# Altium integrated library Infineon_Power_MOSFET.IntLib: 1448 symbols (part 41 of 47)
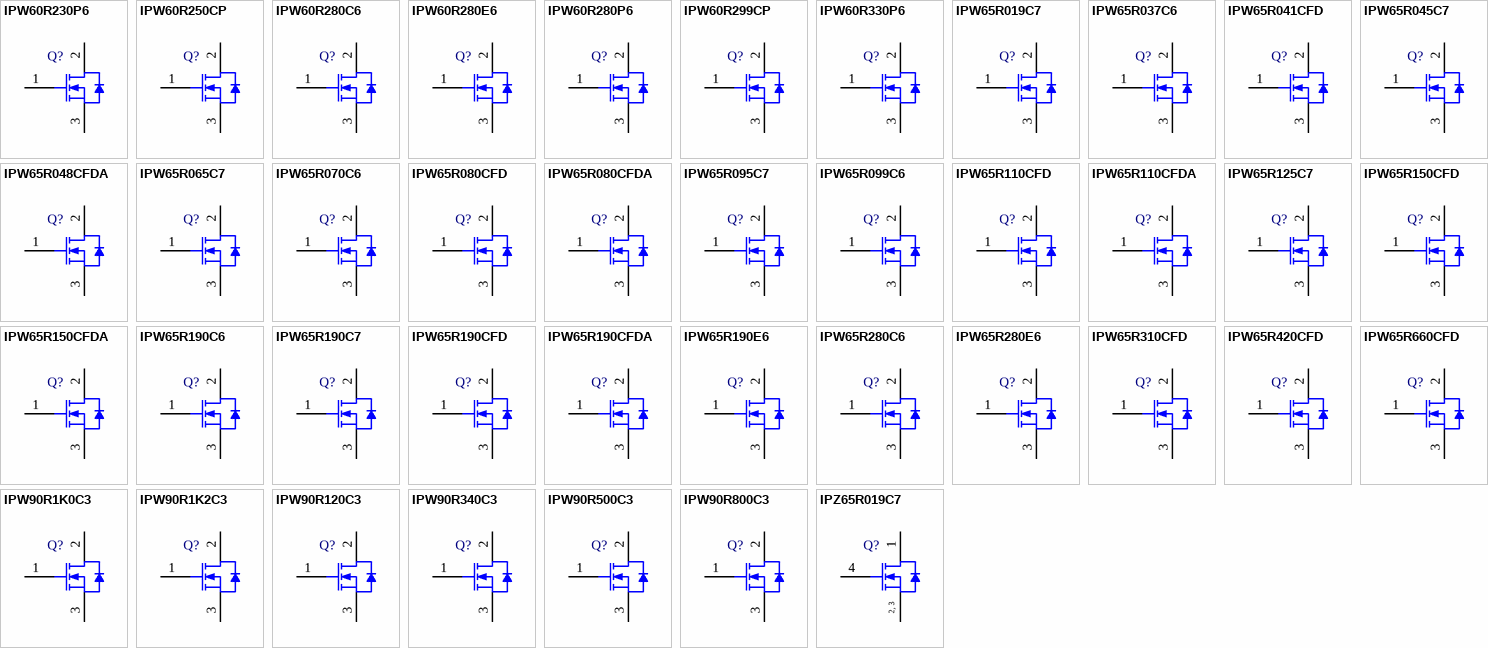
[diagram p77: symbols IPW60R230P6 to IPZ65R019C7]

## IPW65R099C6
designator Q?
N-Channel CoolMOS C6 Power-Transistor, 650 V VDS, 38 A ID, -55 to 150 degC, PG-TO247-3-44, Tube, Green; Manufacturer: Infineon; PartNumber: IPW65R099C6; Green: TRUE; ID (max): 38 A; IDpuls (max): 115 A; Polarity: N; Ptot (max): 278 W; QG: 127 nC; RDS (on) (max): 99 mOhm; Rth: 0.45 K/W; RthJA (max): 62 K/W; VDS (max): 650 V; VGS(th) (max): 3.5 V; VGS(th) (min): 2.5 V; DatasheetVersion: Rev. 2.0; PackageVersion: Rev. 03; PackageReference: PG-TO247-3-44; PackageDescription: 3-Pin Plastic (Green) Transistor Single Outline Package, 15.94 x 20.95 mm Body, 5.44 mm Pitch; Halogen-free: available; Packing: Tube; RthJC (max): 0.45 K/W; Technology: CoolMOS C6; Mounting Technology: Through Hole; ComponentLink1Description: Manufacturer URL; ComponentLink1URL: http://www.infineon.com/; ComponentLink2Description: Datasheet; ComponentLink2URL: http://www.infineon.com/dgdl/IPW65R099C6.pdf?folderId=db3a3043163797a6011637d4bae7003b&fileId=db3a3043341f67a1013440f34440502a; ComponentLink3Description: Package Specification; ComponentLink3URL: http://www.infineon.com/cms/packages/Leaded_and_through-hole/P-PG-TO247/P-PG-TO247-3-44.html?__locale=en
footprint INF-PG-TO247-3-44 (FM, 3-Leads, Body 5.02x15.94mm, Pitch 5.44mm)
pins: 1 GATE, 2 DRAIN, 3 SOURCE

## IPW65R110CFD
designator Q?
N-Channel CoolMOS CFD2 Power-Transistor, 650 V VDS, 31.2 A ID, -55 to 150 degC, PG-TO247-3-44, Tube, Green; Manufacturer: Infineon; PartNumber: IPW65R110CFD; Green: TRUE; ID (max): 31.2 A; IDpuls (max): 99.6 A; Polarity: N; Ptot (max): 277.8 W; QG: 118 nC; RDS (on) (max): 110 mOhm; Rth: 0.45 K/W; RthJA (max): 62 K/W; VDS (max): 650 V; VGS(th) (max): 4.5 V; VGS(th) (min): 3.5 V; DatasheetVersion: Rev. 2.6; PackageVersion: Rev. 03; PackageReference: PG-TO247-3-44; PackageDescription: 3-Pin Plastic (Green) Transistor Single Outline Package, 15.94 x 20.95 mm Body, 5.44 mm Pitch; Supplier 1: Mouser; Supplier Part Number 1: 726-IPW65R110CFD; Supplier 2: Digi-Key; Supplier Part Number 2: IPW65R110CFD-ND; Halogen-free: available; Packing: Tube; RthJC (max): 0.45 K/W; Technology: CoolMOS CFD2; Mounting Technology: Through Hole; ComponentLink1Description: Manufacturer URL; ComponentLink1URL: http://www.infineon.com/; ComponentLink2Description: Datasheet; ComponentLink2URL: http://www.infineon.com/dgdl/DS_IPX65R110CFD_2_61.pdf?folderId=db3a3043156fd5730115c736bcc70ff2&fileId=db3a30433004641301306abd8e2041b1; ComponentLink3Description: Package Specification; ComponentLink3URL: http://www.infineon.com/cms/packages/Leaded_and_through-hole/P-PG-TO247/P-PG-TO247-3-44.html?__locale=en
footprint INF-PG-TO247-3-44 (FM, 3-Leads, Body 5.02x15.94mm, Pitch 5.44mm)
pins: 1 GATE, 2 DRAIN, 3 SOURCE

## IPW65R110CFDA
designator Q?
N-Channel CoolMOS CFDA Power-Transistor, 650 V VDS, 31.2 A ID, -40 to 150 degC, PG-TO247-3-44, Tube, Green; Manufacturer: Infineon; PartNumber: IPW65R110CFDA; Green: TRUE; ID (max): 31.2 A; IDpuls (max): 99.6 A; Polarity: N; Ptot (max): 277.8 W; QG: 118 nC; RDS (on) (max): 110 mOhm; Rth: 0.45 K/W; RthJA (max): 62 K/W; VDS (max): 650 V; VGS(th) (max): 4.5 V; VGS(th) (min): 3.5 V; DatasheetVersion: Rev. 2.0; PackageVersion: Rev. 03; PackageReference: PG-TO247-3-44; PackageDescription: 3-Pin Plastic (Green) Transistor Single Outline Package, 15.94 x 20.95 mm Body, 5.44 mm Pitch; Halogen-free: available; Packing: Tube; RthJC (max): 0.45 K/W; Technology: CoolMOS CFDA; Mounting Technology: Through Hole; ComponentLink1Description: Manufacturer URL; ComponentLink1URL: http://www.infineon.com/; ComponentLink2Description: Datasheet; ComponentLink2URL: http://www.infineon.com/dgdl/DS_IPX65R110CFDA_2_0.pdf?folderId=db3a3043163797a6011637d4bae7003b&fileId=db3a304336797ff90136ba7c820925a5; ComponentLink3Description: Package Specification; ComponentLink3URL: http://www.infineon.com/cms/packages/Leaded_and_through-hole/P-PG-TO247/P-PG-TO247-3-44.html?__locale=en
footprint INF-PG-TO247-3-44 (FM, 3-Leads, Body 5.02x15.94mm, Pitch 5.44mm)
pins: 1 GATE, 2 DRAIN, 3 SOURCE

## IPW65R125C7
designator Q?
N-Channel CoolMOS(TM) C7 Power Transistor, 650 V VDS, -55 to 150 degC, PG-TO247-3, Tube, Green; Manufacturer: Infineon; PartNumber: IPW65R125C7; Green: TRUE; Polarity: FALSE; RDS (on) (max): 125 mOhm; VDS (max): 650 V; DatasheetVersion: Rev. 2.0; PackageVersion: Rev. 05, 07/2010; PackageReference: PG-TO247-3-44_A; PackageDescription: 3-Pin Plastic (Green) Transistor Single Outline Package, 15.915 x 20.95 mm Body, 5.44 mm Pitch; Supplier 1: Mouser; Supplier Part Number 1: N/A; Halogen-free: TRUE; Packing: Tube; Mounting Technology: Through Hole; ComponentLink1Description: Manufacturer URL; ComponentLink1URL: http://www.infineon.com/; ComponentLink2Description: Datasheet; ComponentLink2URL: http://www.infineon.com/dgdl/DS_IPW65R125C7_2_0.pdf?folderId=db3a3043156fd5730115c736bcc70ff2&fileId=db3a30434208e5fd01420df7147364a5; ComponentLink3Description: Package Specification; ComponentLink3URL: http://www.infineon.com/dgdl/IJW120R070T1-final+datasheet+2+0.pdf?folderId=db3a304341e0aed0014203508c870e38&fileId=db3a304341e0aed0014203597c420ec5
footprint INF-PG-TO247-3-44_A (FM, 3-Leads, Body 15.915x5.02mm, Pitch 5.44mm)
pins: 1 GATE, 2 DRAIN, 3 SOURCE

## IPW65R150CFD
designator Q?
N-Channel CoolMOS CFD2 Power-Transistor, 650 V VDS, 22.4 A ID, -55 to 150 degC, PG-TO247-3-44, Tube, Green; Manufacturer: Infineon; PartNumber: IPW65R150CFD; Green: TRUE; ID (max): 22.4 A; IDpuls (max): 72 A; Polarity: N; Ptot (max): 195.3 W; QG: 86 nC; RDS (on) (max): 150 mOhm; Rth: 0.64 K/W; RthJA (max): 62 K/W; VDS (max): 650 V; VGS(th) (max): 4.5 V; VGS(th) (min): 3.5 V; DatasheetVersion: Rev. 2.0; PackageVersion: Rev. 03; PackageReference: PG-TO247-3-44; PackageDescription: 3-Pin Plastic (Green) Transistor Single Outline Package, 15.94 x 20.95 mm Body, 5.44 mm Pitch; Halogen-free: available; Packing: Tube; RthJC (max): 0.64 K/W; Technology: CoolMOS CFD2; Mounting Technology: Through Hole; ComponentLink1Description: Manufacturer URL; ComponentLink1URL: http://www.infineon.com/; ComponentLink2Description: Datasheet; ComponentLink2URL: http://www.infineon.com/dgdl/DS_IPX65R150CFD__2_01.pdf?folderId=db3a3043156fd5730115c736bcc70ff2&fileId=db3a3043338c8ac80133ace218433063; ComponentLink3Description: Package Specification; ComponentLink3URL: http://www.infineon.com/cms/packages/Leaded_and_through-hole/P-PG-TO247/P-PG-TO247-3-44.html?__locale=en
footprint INF-PG-TO247-3-44 (FM, 3-Leads, Body 5.02x15.94mm, Pitch 5.44mm)
pins: 1 GATE, 2 DRAIN, 3 SOURCE

## IPW65R150CFDA
designator Q?
N-Channel CoolMOS CFDA Power-Transistor, 650 V VDS, 22.4 A ID, -40 to 150 degC, PG-TO247-3-44, Tube, Green; Manufacturer: Infineon; PartNumber: IPW65R150CFDA; Green: TRUE; ID (max): 22.4 A; IDpuls (max): 72 A; Polarity: N; Ptot (max): 195.3 W; QG: 86 nC; RDS (on) (max): 150 mOhm; Rth: 0.64 K/W; RthJA (max): 62 K/W; VDS (max): 650 V; VGS(th) (max): 4.5 V; VGS(th) (min): 3.5 V; DatasheetVersion: Rev. 2.0; PackageVersion: Rev. 03; PackageReference: PG-TO247-3-44; PackageDescription: 3-Pin Plastic (Green) Transistor Single Outline Package, 15.94 x 20.95 mm Body, 5.44 mm Pitch; Halogen-free: available; Packing: Tube; RthJC (max): 0.64 K/W; Technology: CoolMOS CFDA; Mounting Technology: Through Hole; ComponentLink1Description: Manufacturer URL; ComponentLink1URL: http://www.infineon.com/; ComponentLink2Description: Datasheet; ComponentLink2URL: http://www.infineon.com/dgdl/DS_IPX65R150CFDA_final+2.0.pdf?folderId=db3a3043156fd5730115c736bcc70ff2&fileId=db3a3043399628450139af71b2a12046; ComponentLink3Description: Package Specification; ComponentLink3URL: http://www.infineon.com/cms/packages/Leaded_and_through-hole/P-PG-TO247/P-PG-TO247-3-44.html?__locale=en
footprint INF-PG-TO247-3-44 (FM, 3-Leads, Body 5.02x15.94mm, Pitch 5.44mm)
pins: 1 GATE, 2 DRAIN, 3 SOURCE

## IPW65R190C6
designator Q?
N-Channel CoolMOS C6 Power-Transistor, 650 V VDS, 20.2 A ID, -55 to 150 degC, PG-TO247-3-44, Tube, Green; Manufacturer: Infineon; PartNumber: IPW65R190C6; Green: TRUE; ID (max): 20.2 A; IDpuls (max): 66 A; Polarity: N; Ptot (max): 151 W; QG: 73 nC; RDS (on) (max): 190 mOhm; Rth: 0.83 K/W; RthJA (max): 62 K/W; VDS (max): 650 V; VGS(th) (max): 3.5 V; VGS(th) (min): 2.5 V; DatasheetVersion: Rev. 2.0; PackageVersion: Rev. 03; PackageReference: PG-TO247-3-44; PackageDescription: 3-Pin Plastic (Green) Transistor Single Outline Package, 15.94 x 20.95 mm Body, 5.44 mm Pitch; Supplier 1: Mouser; Supplier Part Number 1: 726-IPW65R190C6; Supplier 2: Digi-Key; Supplier Part Number 2: IPW65R190C6-ND; Halogen-free: available; Packing: Tube; RthJC (max): 0.83 K/W; Technology: CoolMOS C6; Mounting Technology: Through Hole; ComponentLink1Description: Manufacturer URL; ComponentLink1URL: http://www.infineon.com/; ComponentLink2Description: Datasheet; ComponentLink2URL: http://www.infineon.com/dgdl/IPW65R190C6_2_0.pdf?folderId=db3a3043163797a6011637d4bae7003b&fileId=db3a30433004641301300803924c3d8c; ComponentLink3Description: Package Specification; ComponentLink3URL: http://www.infineon.com/cms/packages/Leaded_and_through-hole/P-PG-TO247/P-PG-TO247-3-44.html?__locale=en
footprint INF-PG-TO247-3-44 (FM, 3-Leads, Body 5.02x15.94mm, Pitch 5.44mm)
pins: 1 GATE, 2 DRAIN, 3 SOURCE

## IPW65R190C7
designator Q?
N-Channel CoolMOS(TM) C7 Power Transistor, 650 V VDS, -55 to 150 degC, PG-TO247-3, Tube, Green; Manufacturer: Infineon; PartNumber: IPW65R190C7; Green: TRUE; Polarity: FALSE; RDS (on) (max): 190 mOhm; VDS (max): 650 V; DatasheetVersion: Rev. 2.1; PackageVersion: Rev. 05, 07/2010; PackageReference: PG-TO247-3-44_A; PackageDescription: 3-Pin Plastic (Green) Transistor Single Outline Package, 15.915 x 20.95 mm Body, 5.44 mm Pitch; Supplier 1: Farnell; Supplier Part Number 1: 2420511; Supplier 2: Newark; Supplier Part Number 2: 54X5237; Supplier 3: Mouser; Supplier Part Number 3: N/A; Halogen-free: TRUE; Packing: Tube; Mounting Technology: Through Hole; ComponentLink1Description: Manufacturer URL; ComponentLink1URL: http://www.infineon.com/; ComponentLink2Description: Datasheet; ComponentLink2URL: http://www.infineon.com/dgdl/DS_IPW65R190C7_2_1.pdf?folderId=db3a3043156fd5730115c736bcc70ff2&fileId=db3a30434208e5fd01420e04d795662a; ComponentLink3Description: Package Specification; ComponentLink3URL: http://www.infineon.com/dgdl/IJW120R070T1-final+datasheet+2+0.pdf?folderId=db3a304341e0aed0014203508c870e38&fileId=db3a304341e0aed0014203597c420ec5
footprint INF-PG-TO247-3-44_A (FM, 3-Leads, Body 15.915x5.02mm, Pitch 5.44mm)
pins: 1 GATE, 2 DRAIN, 3 SOURCE

## IPW65R190CFD
designator Q?
N-Channel CoolMOS C6 CFD Power-Transistor, 650 V VDS, 17.5 A ID, -55 to 150 degC, PG-TO247-3-44, Tube, Green; Manufacturer: Infineon; PartNumber: IPW65R190CFD; Green: TRUE; ID (max): 17.5 A; IDpuls (max): 57.2 A; Polarity: N; Ptot (max): 151 W; QG: 68 nC; RDS (on) (max): 190 mOhm; Rth: 0.83 K/W; RthJA (max): 62 K/W; VDS (max): 650 V; VGS(th) (max): 4.5 V; VGS(th) (min): 3.5 V; DatasheetVersion: Rev. 2.2; PackageVersion: Rev. 03; PackageReference: PG-TO247-3-44; PackageDescription: 3-Pin Plastic (Green) Transistor Single Outline Package, 15.94 x 20.95 mm Body, 5.44 mm Pitch; Supplier 1: Mouser; Supplier Part Number 1: 726-IPW65R190CFD; Supplier 2: Digi-Key; Supplier Part Number 2: IPW65R190CFD-ND; Halogen-free: available; Packing: Tube; RthJC (max): 0.83 K/W; Technology: CoolMOS CFD2; Mounting Technology: Through Hole; ComponentLink1Description: Manufacturer URL; ComponentLink1URL: http://www.infineon.com/; ComponentLink2Description: Datasheet; ComponentLink2URL: http://www.infineon.com/dgdl/DS_IPX65R190CFD__2_2.pdf?folderId=db3a3043163797a6011637d4bae7003b&fileId=db3a30432fd0c54a012fded065a8309b; ComponentLink3Description: Package Specification; ComponentLink3URL: http://www.infineon.com/cms/packages/Leaded_and_through-hole/P-PG-TO247/P-PG-TO247-3-44.html?__locale=en
footprint INF-PG-TO247-3-44 (FM, 3-Leads, Body 5.02x15.94mm, Pitch 5.44mm)
pins: 1 GATE, 2 DRAIN, 3 SOURCE

## IPW65R190CFDA
designator Q?
N-Channel CoolMOS CFDA Power-Transistor, 650 V VDS, 17.5 A ID, -40 to 150 degC, PG-TO247-3-44, Tube, Green; Manufacturer: Infineon; PartNumber: IPW65R190CFDA; Green: TRUE; ID (max): 17.5 A; IDpuls (max): 57.2 A; Polarity: N; Ptot (max): 151 W; QG: 68 nC; RDS (on) (max): 190 mOhm; Rth: 0.83 K/W; RthJA (max): 62 K/W; VDS (max): 650 V; VGS(th) (max): 4.5 V; VGS(th) (min): 3.5 V; DatasheetVersion: Rev. 2.0; PackageVersion: Rev. 03; PackageReference: PG-TO247-3-44; PackageDescription: 3-Pin Plastic (Green) Transistor Single Outline Package, 15.94 x 20.95 mm Body, 5.44 mm Pitch; Halogen-free: available; Packing: Tube; RthJC (max): 0.83 K/W; Technology: CoolMOS CFDA; Mounting Technology: Through Hole; ComponentLink1Description: Manufacturer URL; ComponentLink1URL: http://www.infineon.com/; ComponentLink2Description: Datasheet; ComponentLink2URL: http://www.infineon.com/dgdl/DS_IPX65R190CFDA_final+2.0.pdf?folderId=db3a3043156fd5730115c736bcc70ff2&fileId=db3a3043399628450139afa2346920a1; ComponentLink3Description: Package Specification; ComponentLink3URL: http://www.infineon.com/cms/packages/Leaded_and_through-hole/P-PG-TO247/P-PG-TO247-3-44.html?__locale=en
footprint INF-PG-TO247-3-44 (FM, 3-Leads, Body 5.02x15.94mm, Pitch 5.44mm)
pins: 1 GATE, 2 DRAIN, 3 SOURCE

## IPW65R190E6
designator Q?
N-Channel CoolMOS E6 Power-Transistor, 650 V VDS, 20.2 A ID, -55 to 150 degC, PG-TO247-3-44, Tube, Green; Manufacturer: Infineon; PartNumber: IPW65R190E6; Green: TRUE; ID (max): 20.2 A; IDpuls (max): 66 A; Polarity: N; Ptot (max): 151 W; QG: 73 nC; RDS (on) (max): 190 mOhm; Rth: 0.83 K/W; RthJA (max): 62 K/W; VDS (max): 650 V; VGS(th) (max): 3.5 V; VGS(th) (min): 2.5 V; DatasheetVersion: Rev. 2.0; PackageVersion: Rev. 03; PackageReference: PG-TO247-3-44; PackageDescription: 3-Pin Plastic (Green) Transistor Single Outline Package, 15.94 x 20.95 mm Body, 5.44 mm Pitch; Supplier 1: Mouser; Supplier Part Number 1: 726-IPW65R190E6; Supplier 2: Digi-Key; Supplier Part Number 2: IPW65R190E6-ND; Halogen-free: available; Packing: Tube; RthJC (max): 0.83 K/W; Technology: CoolMOS E6; Mounting Technology: Through Hole; ComponentLink1Description: Manufacturer URL; ComponentLink1URL: http://www.infineon.com/; ComponentLink2Description: Datasheet; ComponentLink2URL: http://www.infineon.com/dgdl/IPW65R190E6_2_0.pdf?folderId=db3a3043163797a6011637d4bae7003b&fileId=db3a3043300464130130075c7f263b94; ComponentLink3Description: Package Specification; ComponentLink3URL: http://www.infineon.com/cms/packages/Leaded_and_through-hole/P-PG-TO247/P-PG-TO247-3-44.html?__locale=en
footprint INF-PG-TO247-3-44 (FM, 3-Leads, Body 5.02x15.94mm, Pitch 5.44mm)
pins: 1 GATE, 2 DRAIN, 3 SOURCE

## IPW65R280C6
designator Q?
N-Channel CoolMOS C6 Power-Transistor, 650 V VDS, 13.8 A ID, -55 to 150 degC, PG-TO247-3-44, Tube, Green; Manufacturer: Infineon; PartNumber: IPW65R280C6; Green: TRUE; ID (max): 13.8 A; IDpuls (max): 39 A; Polarity: N; Ptot (max): 104 W; QG: 45 nC; RDS (on) (max): 280 mOhm; Rth: 1.2 K/W; RthJA (max): 62 K/W; VDS (max): 650 V; VGS(th) (max): 3.5 V; VGS(th) (min): 2.5 V; DatasheetVersion: Rev. 2.0; PackageVersion: Rev. 03; PackageReference: PG-TO247-3-44; PackageDescription: 3-Pin Plastic (Green) Transistor Single Outline Package, 15.94 x 20.95 mm Body, 5.44 mm Pitch; Supplier 1: Mouser; Supplier Part Number 1: 726-IPW65R280C6; Supplier 2: Digi-Key; Supplier Part Number 2: IPW65R280C6-ND; Halogen-free: available; Packing: Tube; RthJC (max): 1.2 K/W; Technology: CoolMOS C6; Mounting Technology: Through Hole; ComponentLink1Description: Manufacturer URL; ComponentLink1URL: http://www.infineon.com/; ComponentLink2Description: Datasheet; ComponentLink2URL: http://www.infineon.com/dgdl/IPW65R280C6_2_0.pdf?folderId=db3a3043156fd5730115c736bcc70ff2&fileId=db3a30432a7fedfc012a8aceded858e0; ComponentLink3Description: Package Specification; ComponentLink3URL: http://www.infineon.com/cms/packages/Leaded_and_through-hole/P-PG-TO247/P-PG-TO247-3-44.html?__locale=en
footprint INF-PG-TO247-3-44 (FM, 3-Leads, Body 5.02x15.94mm, Pitch 5.44mm)
pins: 1 GATE, 2 DRAIN, 3 SOURCE

## IPW65R280E6
designator Q?
N-Channel CoolMOS E6 Power-Transistor, 650 V VDS, 13.8 A ID, -55 to 150 degC, PG-TO247-3-44, Tube, Green; Manufacturer: Infineon; PartNumber: IPW65R280E6; Green: TRUE; ID (max): 13.8 A; IDpuls (max): 39 A; Polarity: N; Ptot (max): 104 W; QG: 45 nC; RDS (on) (max): 280 mOhm; Rth: 1.2 K/W; RthJA (max): 62 K/W; VDS (max): 650 V; VGS(th) (max): 3.5 V; VGS(th) (min): 2.5 V; DatasheetVersion: Rev. 2.1; PackageVersion: Rev. 03; PackageReference: PG-TO247-3-44; PackageDescription: 3-Pin Plastic (Green) Transistor Single Outline Package, 15.94 x 20.95 mm Body, 5.44 mm Pitch; Supplier 1: Mouser; Supplier Part Number 1: 726-IPW65R280E6; Supplier 2: Digi-Key; Supplier Part Number 2: IPW65R280E6-ND; Halogen-free: available; Packing: Tube; RthJC (max): 1.2 K/W; Technology: CoolMOS E6; Mounting Technology: Through Hole; ComponentLink1Description: Manufacturer URL; ComponentLink1URL: http://www.infineon.com/; ComponentLink2Description: Datasheet; ComponentLink2URL: http://www.infineon.com/dgdl/IPW65R280E6_2_1.pdf?folderId=db3a3043163797a6011637d4bae7003b&fileId=db3a30432a7fedfc012a9e4d5aa80758; ComponentLink3Description: Package Specification; ComponentLink3URL: http://www.infineon.com/cms/packages/Leaded_and_through-hole/P-PG-TO247/P-PG-TO247-3-44.html?__locale=en
footprint INF-PG-TO247-3-44 (FM, 3-Leads, Body 5.02x15.94mm, Pitch 5.44mm)
pins: 1 GATE, 2 DRAIN, 3 SOURCE

## IPW65R310CFD
designator Q?
N-Channel CoolMOS CFD2 Power-Transistor, 650 V VDS, 11.4 A ID, -55 to 150 degC, PG-TO247-3-44, Tube, Green; Manufacturer: Infineon; PartNumber: IPW65R310CFD; Green: TRUE; ID (max): 11.4 A; IDpuls (max): 34.4 A; Polarity: N; Ptot (max): 104.2 W; QG: 41 nC; RDS (on) (max): 310 mOhm; Rth: 1.2 K/W; RthJA (max): 62 K/W; VDS (max): 650 V; VGS(th) (max): 4.5 V; VGS(th) (min): 3.5 V; DatasheetVersion: Rev. 2.3; PackageVersion: Rev. 03; PackageReference: PG-TO247-3-44; PackageDescription: 3-Pin Plastic (Green) Transistor Single Outline Package, 15.94 x 20.95 mm Body, 5.44 mm Pitch; Supplier 1: Mouser; Supplier Part Number 1: 726-IPW65R310CFD; Supplier 2: Digi-Key; Supplier Part Number 2: IPW65R310CFD-ND; Halogen-free: available; Packing: Tube; RthJC (max): 1.2 K/W; Technology: CoolMOS CFD2; Mounting Technology: Through Hole; ComponentLink1Description: Manufacturer URL; ComponentLink1URL: http://www.infineon.com/; ComponentLink2Description: Datasheet; ComponentLink2URL: http://www.infineon.com/dgdl/DS_IPX65R310CFD__2_3.pdf?folderId=db3a3043156fd5730115c736bcc70ff2&fileId=db3a30432f91014f012f9c9d536d73fa; ComponentLink3Description: Package Specification; ComponentLink3URL: http://www.infineon.com/cms/packages/Leaded_and_through-hole/P-PG-TO247/P-PG-TO247-3-44.html?__locale=en
footprint INF-PG-TO247-3-44 (FM, 3-Leads, Body 5.02x15.94mm, Pitch 5.44mm)
pins: 1 GATE, 2 DRAIN, 3 SOURCE

## IPW65R420CFD
designator Q?
N-Channel CoolMOS Power-Transistor, 650 V VDS, 8.7 A ID, -55 to 150 degC, PG-TO247-3-44, Tube, Green; Manufacturer: Infineon; PartNumber: IPW65R420CFD; Green: TRUE; ID (max): 8.7 A; IDpuls (max): 27 A; Polarity: N; Ptot (max): 83.3 W; QG: 31.5 nC; RDS (on) (max): 420 mOhm; Rth: 1.5 K/W; RthJA (max): 62 K/W; VDS (max): 650 V; VGS(th) (max): 4.5 V; VGS(th) (min): 3.5 V; DatasheetVersion: Rev. 2.4; PackageVersion: Rev. 03; PackageReference: PG-TO247-3-44; PackageDescription: 3-Pin Plastic (Green) Transistor Single Outline Package, 15.94 x 20.95 mm Body, 5.44 mm Pitch; Supplier 1: Mouser; Supplier Part Number 1: 726-IPW65R420CFD; Supplier 2: Digi-Key; Supplier Part Number 2: IPW65R420CFD-ND; Halogen-free: available; Packing: Tube; RthJC (max): 1.5 K/W; Technology: CoolMOS CFD2; Mounting Technology: Through Hole; ComponentLink1Description: Manufacturer URL; ComponentLink1URL: http://www.infineon.com/; ComponentLink2Description: Datasheet; ComponentLink2URL: http://www.infineon.com/dgdl/DS_IPX65R420CFD_2_4.pdf?folderId=db3a3043156fd5730115c736bcc70ff2&fileId=db3a30432f91014f012f9c293f1a7399; ComponentLink3Description: Package Specification; ComponentLink3URL: http://www.infineon.com/cms/packages/Leaded_and_through-hole/P-PG-TO247/P-PG-TO247-3-44.html?__locale=en
footprint INF-PG-TO247-3-44 (FM, 3-Leads, Body 5.02x15.94mm, Pitch 5.44mm)
pins: 1 GATE, 2 DRAIN, 3 SOURCE

## IPW65R660CFD
designator Q?
N-Channel CoolMOS CFD2 Power-Transistor, 650 V VDS, 6 A ID, -55 to 150 degC, PG-TO247-3-44, Tube, Green; Manufacturer: Infineon; PartNumber: IPW65R660CFD; Green: TRUE; ID (max): 6 A; IDpuls (max): 17 A; Polarity: N; Ptot (max): 62.5 W; QG: 22 nC; RDS (on) (max): 660 mOhm; Rth: 2 K/W; RthJA (max): 62 K/W; VDS (max): 650 V; VGS(th) (max): 4.5 V; VGS(th) (min): 3.5 V; DatasheetVersion: Rev. 2.5; PackageVersion: Rev. 03; PackageReference: PG-TO247-3-44; PackageDescription: 3-Pin Plastic (Green) Transistor Single Outline Package, 15.94 x 20.95 mm Body, 5.44 mm Pitch; Supplier 1: Mouser; Supplier Part Number 1: 726-IPW65R660CFD; Supplier 2: Digi-Key; Supplier Part Number 2: IPW65R660CFD-ND; Halogen-free: available; Packing: Tube; RthJC (max): 2 K/W; Technology: CoolMOS CFD2; Mounting Technology: Through Hole; ComponentLink1Description: Manufacturer URL; ComponentLink1URL: http://www.infineon.com/; ComponentLink2Description: Datasheet; ComponentLink2URL: http://www.infineon.com/dgdl/DS_IPX65R660CFD_2_5.pdf?folderId=db3a3043163797a6011637d4bae7003b&fileId=db3a30432f29829e012f2efe7ac539b4; ComponentLink3Description: Package Specification; ComponentLink3URL: http://www.infineon.com/cms/packages/Leaded_and_through-hole/P-PG-TO247/P-PG-TO247-3-44.html?__locale=en
footprint INF-PG-TO247-3-44 (FM, 3-Leads, Body 5.02x15.94mm, Pitch 5.44mm)
pins: 1 GATE, 2 DRAIN, 3 SOURCE

## IPW90R1K0C3
designator Q?
N-Channel CoolMOS Power-Transistor, 900 V VDS, 5.7 A ID, -55 to 150 degC, PG-TO247-3-44, Tube, Green; Manufacturer: Infineon; PartNumber: IPW90R1K0C3; Green: TRUE; ID (max): 5.7 A; IDpuls (max): 12 A; Polarity: N; Ptot (max): 89 W; QG: 34 nC; RDS (on) (max): 1,000 mOhm; Rth: 1.4 K/W; RthJA (max): 62 K/W; VDS (max): 900 V; VGS(th) (max): 3.5 V; VGS(th) (min): 2.5 V; DatasheetVersion: Rev. 1.0; PackageVersion: Rev. 03; PackageReference: PG-TO247-3-44; PackageDescription: 3-Pin Plastic (Green) Transistor Single Outline Package, 15.94 x 20.95 mm Body, 5.44 mm Pitch; Supplier 1: Mouser; Supplier Part Number 1: 726-IPW90R1K0C3; Supplier 2: Newark; Supplier Part Number 2: 33P7197; Supplier 3: Farnell; Supplier Part Number 3: 1664088; Supplier 4: Digi-Key; Supplier Part Number 4: IPW90R1K0C3-ND; Halogen-free: available; Packing: Tube; RthJC (max): 1.4 K/W; Technology: CoolMOS C3; Mounting Technology: Through Hole; ComponentLink1Description: Manufacturer URL; ComponentLink1URL: http://www.infineon.com/; ComponentLink2Description: Datasheet; ComponentLink2URL: http://www.infineon.com/dgdl/IPW90R1K0C3_1%5B1%5D.0_PCN.pdf?folderId=db3a3043156fd5730115c736bcc70ff2&fileId=db3a30431b3e89eb011b8da2ee4e1071; ComponentLink3Description: Package Specification; ComponentLink3URL: http://www.infineon.com/cms/packages/Leaded_and_through-hole/P-PG-TO247/P-PG-TO247-3-44.html?__locale=en
footprint INF-PG-TO247-3-44 (FM, 3-Leads, Body 5.02x15.94mm, Pitch 5.44mm)
pins: 1 GATE, 2 DRAIN, 3 SOURCE

## IPW90R1K2C3
designator Q?
N-Channel CoolMOS Power-Transistor, 900 V VDS, 5.1 A ID, -55 to 150 degC, PG-TO247-3-44, Tube, Green; Manufacturer: Infineon; PartNumber: IPW90R1K2C3; Green: TRUE; ID (max): 5.1 A; IDpuls (max): 10 A; Polarity: N; Ptot (max): 83 W; QG: 28 nC; RDS (on) (max): 1,200 mOhm; Rth: 1.5 K/W; RthJA (max): 62 K/W; VDS (max): 900 V; VGS(th) (max): 3.5 V; VGS(th) (min): 2.5 V; DatasheetVersion: Rev. 1.0; PackageVersion: Rev. 03; PackageReference: PG-TO247-3-44; PackageDescription: 3-Pin Plastic (Green) Transistor Single Outline Package, 15.94 x 20.95 mm Body, 5.44 mm Pitch; Supplier 1: Mouser; Supplier Part Number 1: 726-IPW90R1K2C3; Supplier 2: Digi-Key; Supplier Part Number 2: IPW90R1K2C3-ND; Halogen-free: available; Packing: Tube; RthJC (max): 1.5 K/W; Technology: CoolMOS C3; Mounting Technology: Through Hole; ComponentLink1Description: Manufacturer URL; ComponentLink1URL: http://www.infineon.com/; ComponentLink2Description: Datasheet; ComponentLink2URL: http://www.infineon.com/dgdl/IPW90R1K2C3_1%5B1%5D.0_PCN.pdf?folderId=db3a3043156fd5730115c736bcc70ff2&fileId=db3a3043183a955501184ffdc4fc54e2; ComponentLink3Description: Package Specification; ComponentLink3URL: http://www.infineon.com/cms/packages/Leaded_and_through-hole/P-PG-TO247/P-PG-TO247-3-44.html?__locale=en
footprint INF-PG-TO247-3-44 (FM, 3-Leads, Body 5.02x15.94mm, Pitch 5.44mm)
pins: 1 GATE, 2 DRAIN, 3 SOURCE

## IPW90R120C3
designator Q?
N-Channel CoolMOS Power-Transistor, 900 V VDS, 36 A ID, -55 to 150 degC, PG-TO247-3-44, Tube, Green; Manufacturer: Infineon; PartNumber: IPW90R120C3; Green: TRUE; ID (max): 36 A; IDpuls (max): 96 A; Polarity: N; Ptot (max): 417 W; QG: 270 nC; RDS (on) (max): 120 mOhm; Rth: 0.3 K/W; RthJA (max): 62 K/W; VDS (max): 900 V; VGS(th) (max): 3.5 V; VGS(th) (min): 2.5 V; DatasheetVersion: Rev. 1.0; PackageVersion: Rev. 03; PackageReference: PG-TO247-3-44; PackageDescription: 3-Pin Plastic (Green) Transistor Single Outline Package, 15.94 x 20.95 mm Body, 5.44 mm Pitch; Supplier 1: Mouser; Supplier Part Number 1: 726-IPW90R120C3; Supplier 2: Newark; Supplier Part Number 2: 33P7199; Supplier 3: Farnell; Supplier Part Number 3: 1664087; Supplier 4: Digi-Key; Supplier Part Number 4: IPW90R120C3-ND; Halogen-free: available; Packing: Tube; RthJC (max): 0.3 K/W; Technology: CoolMOS C3; Mounting Technology: Through Hole; ComponentLink1Description: Manufacturer URL; ComponentLink1URL: http://www.infineon.com/; ComponentLink2Description: Datasheet; ComponentLink2URL: http://www.infineon.com/dgdl/IPW90R120C3_1%5B1%5D.0_PCN.pdf?folderId=db3a3043156fd5730115c736bcc70ff2&fileId=db3a3043183a955501185000e1d254f2; ComponentLink3Description: Package Specification; ComponentLink3URL: http://www.infineon.com/cms/packages/Leaded_and_through-hole/P-PG-TO247/P-PG-TO247-3-44.html?__locale=en
footprint INF-PG-TO247-3-44 (FM, 3-Leads, Body 5.02x15.94mm, Pitch 5.44mm)
pins: 1 GATE, 2 DRAIN, 3 SOURCE

## IPW90R340C3
designator Q?
N-Channel CoolMOS Power-Transistor, 900 V VDS, 15 A ID, -55 to 150 degC, PG-TO247-3-44, Tube, Green; Manufacturer: Infineon; PartNumber: IPW90R340C3; Green: TRUE; ID (max): 15 A; IDpuls (max): 34 A; Polarity: N; Ptot (max): 208 W; QG: 94 nC; RDS (on) (max): 340 mOhm; Rth: 0.6 K/W; RthJA (max): 62 K/W; VDS (max): 900 V; VGS(th) (max): 3.5 V; VGS(th) (min): 2.5 V; DatasheetVersion: Rev. 1.0; PackageVersion: Rev. 03; PackageReference: PG-TO247-3-44; PackageDescription: 3-Pin Plastic (Green) Transistor Single Outline Package, 15.94 x 20.95 mm Body, 5.44 mm Pitch; Supplier 1: Mouser; Supplier Part Number 1: 726-IPW90R340C3; Supplier 2: Farnell; Supplier Part Number 2: 1664090; Supplier 3: Digi-Key; Supplier Part Number 3: IPW90R340C3-ND; Halogen-free: available; Packing: Tube; RthJC (max): 0.6 K/W; Technology: CoolMOS C3; Mounting Technology: Through Hole; ComponentLink1Description: Manufacturer URL; ComponentLink1URL: http://www.infineon.com/; ComponentLink2Description: Datasheet; ComponentLink2URL: http://www.infineon.com/dgdl/IPW90R340C3_1%5B1%5D.0_PCN.pdf?folderId=db3a3043163797a6011637d4bae7003b&fileId=db3a3043183a955501183c3a02810087; ComponentLink3Description: Package Specification; ComponentLink3URL: http://www.infineon.com/cms/packages/Leaded_and_through-hole/P-PG-TO247/P-PG-TO247-3-44.html?__locale=en
footprint INF-PG-TO247-3-44 (FM, 3-Leads, Body 5.02x15.94mm, Pitch 5.44mm)
pins: 1 GATE, 2 DRAIN, 3 SOURCE

## IPW90R500C3
designator Q?
N-Channel CoolMOS Power-Transistor, 900 V VDS, 11 A ID, -55 to 150 degC, PG-TO247-3-44, Tube, Green; Manufacturer: Infineon; PartNumber: IPW90R500C3; Green: TRUE; ID (max): 11 A; IDpuls (max): 24 A; Polarity: N; Ptot (max): 156 W; QG: 68 nC; RDS (on) (max): 500 mOhm; Rth: 0.8 K/W; RthJA (max): 62 K/W; VDS (max): 900 V; VGS(th) (max): 3.5 V; VGS(th) (min): 2.5 V; DatasheetVersion: Rev. 1.0; PackageVersion: Rev. 03; PackageReference: PG-TO247-3-44; PackageDescription: 3-Pin Plastic (Green) Transistor Single Outline Package, 15.94 x 20.95 mm Body, 5.44 mm Pitch; Supplier 1: Mouser; Supplier Part Number 1: 726-IPW90R500C3; Supplier 2: Newark; Supplier Part Number 2: 33P7201; Supplier 3: Farnell; Supplier Part Number 3: 1664091; Supplier 4: Digi-Key; Supplier Part Number 4: IPW90R500C3-ND; Halogen-free: available; Packing: Tube; RthJC (max): 0.8 K/W; Technology: CoolMOS C3; Mounting Technology: Through Hole; ComponentLink1Description: Manufacturer URL; ComponentLink1URL: http://www.infineon.com/; ComponentLink2Description: Datasheet; ComponentLink2URL: http://www.infineon.com/dgdl/IPW90R500C3_1%5B1%5D.0_PCN.pdf?folderId=db3a3043156fd5730115c736bcc70ff2&fileId=db3a30431b3e89eb011b8dac43c41085; ComponentLink3Description: Package Specification; ComponentLink3URL: http://www.infineon.com/cms/packages/Leaded_and_through-hole/P-PG-TO247/P-PG-TO247-3-44.html?__locale=en
footprint INF-PG-TO247-3-44 (FM, 3-Leads, Body 5.02x15.94mm, Pitch 5.44mm)
pins: 1 GATE, 2 DRAIN, 3 SOURCE

## IPW90R800C3
designator Q?
N-Channel CoolMOS Power-Transistor, 900 V VDS, 6.9 A ID, -55 to 150 degC, PG-TO247-3-44, Tube, Green; Manufacturer: Infineon; PartNumber: IPW90R800C3; Green: TRUE; ID (max): 6.9 A; IDpuls (max): 15 A; Polarity: N; Ptot (max): 104 W; QG: 42 nC; RDS (on) (max): 800 mOhm; Rth: 1.2 K/W; RthJA (max): 62 K/W; VDS (max): 900 V; VGS(th) (max): 3.5 V; VGS(th) (min): 2.5 V; DatasheetVersion: Rev. 1.0; PackageVersion: Rev. 03; PackageReference: PG-TO247-3-44; PackageDescription: 3-Pin Plastic (Green) Transistor Single Outline Package, 15.94 x 20.95 mm Body, 5.44 mm Pitch; Supplier 1: Mouser; Supplier Part Number 1: 726-IPW90R800C3; Supplier 2: Digi-Key; Supplier Part Number 2: IPW90R800C3-ND; Halogen-free: available; Packing: Tube; RthJC (max): 1.2 K/W; Technology: CoolMOS C3; Mounting Technology: Through Hole; ComponentLink1Description: Manufacturer URL; ComponentLink1URL: http://www.infineon.com/; ComponentLink2Description: Datasheet; ComponentLink2URL: http://www.infineon.com/dgdl/IPW90R800C3_1%5B1%5D.0_PCN.pdf?folderId=db3a3043156fd5730115c736bcc70ff2&fileId=db3a30431b3e89eb011b8db526a81095; ComponentLink3Description: Package Specification; ComponentLink3URL: http://www.infineon.com/cms/packages/Leaded_and_through-hole/P-PG-TO247/P-PG-TO247-3-44.html?__locale=en
footprint INF-PG-TO247-3-44 (FM, 3-Leads, Body 5.02x15.94mm, Pitch 5.44mm)
pins: 1 GATE, 2 DRAIN, 3 SOURCE

## IPZ65R019C7
designator Q?
N-Channel CoolMOS(TM) C7 Power Transistor, 650 V VDS, -55 to 150 degC, PG-TO247-4, Tube, Green; Manufacturer: Infineon; PartNumber: IPZ65R019C7; Green: TRUE; Polarity: FALSE; RDS (on) (max): 19 mOhm; VDS (max): 650 V; DatasheetVersion: Rev. 2.0; PackageVersion: Rev. 1, 01/2013; PackageReference: PG-TO247-4; PackageDescription: 4-Pin Plastic (Green) Transistor Single Outline Package, 15.915 x 5.02 mm Body, 2.54 mm Pitch; Supplier 1: Mouser; Supplier Part Number 1: N/A; Halogen-free: TRUE; Packing: Tube; Mounting Technology: Through Hole; ComponentLink1Description: Manufacturer URL; ComponentLink1URL: http://www.infineon.com/; ComponentLink2Description: Datasheet; ComponentLink2URL: http://www.infineon.com/dgdl/DS_IPZ65R019C7_2_0.pdf?folderId=db3a30431ff98815012019af55de3f2c&fileId=db3a30433e5a5024013e78cb788341cb; ComponentLink3Description: Package Specification; ComponentLink3URL: http://www.infineon.com/dgdl/DS_IPZ65R019C7_2_0.pdf?folderId=db3a30431ff98815012019af55de3f2c&fileId=db3a30433e5a5024013e78cb788341cb
footprint INF-PG-TO247-4 (FM, 4-Leads, Body 16.15x5.25mm, Pitch 2.54mm)
pins: 1 D, 2 S, 3 S, 4 G
text: 2, 3

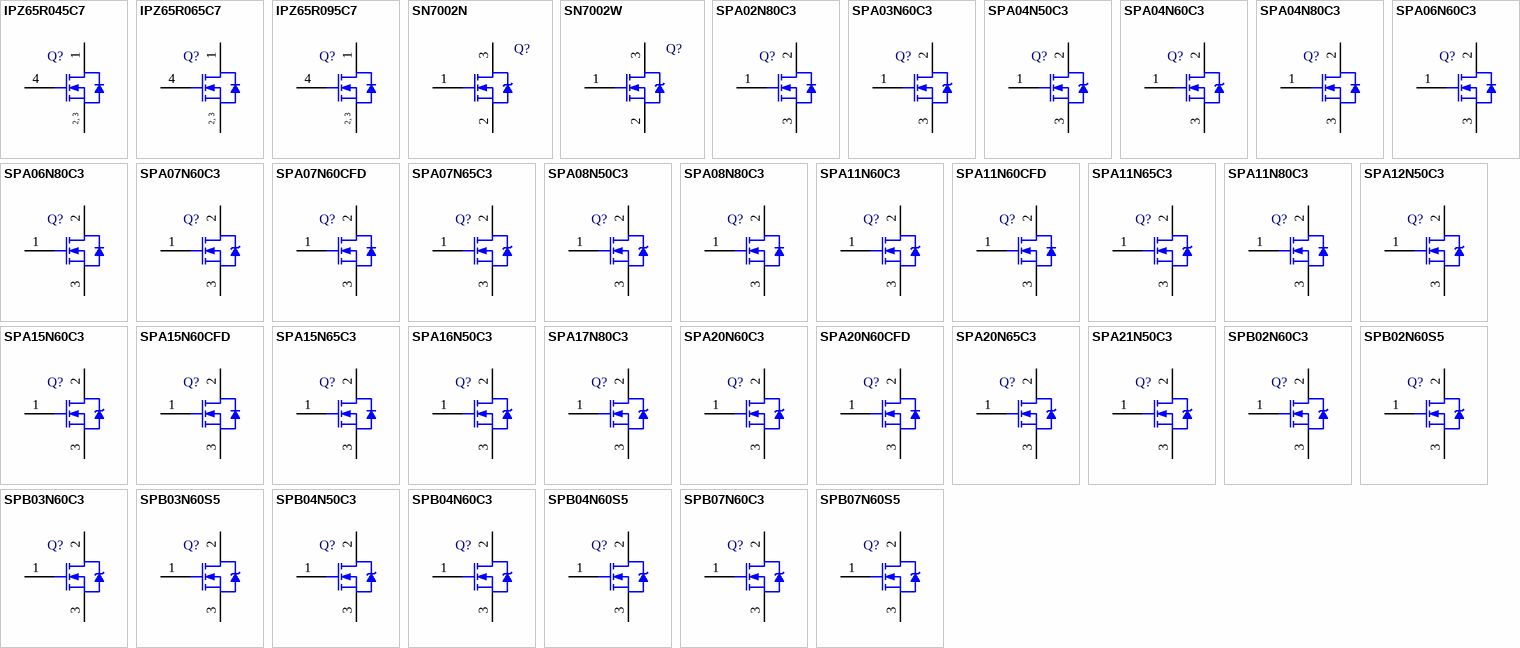
[diagram p33: symbols IPZ65R045C7 to SPB07N60S5]

## IPZ65R045C7
designator Q?
N-Channel CoolMOS(TM) C7 Power Transistor, 650 V VDS, -55 to 150 degC, PG-TO247-4, Tube, Green; Manufacturer: Infineon; PartNumber: IPZ65R045C7; Green: TRUE; Polarity: FALSE; RDS (on) (max): 45 mOhm; VDS (max): 650 V; DatasheetVersion: Rev. 2.0; PackageVersion: Rev. 1, 01/2013; PackageReference: PG-TO247-4; PackageDescription: 4-Pin Plastic (Green) Transistor Single Outline Package, 15.915 x 5.02 mm Body, 2.54 mm Pitch; Supplier 1: Mouser; Supplier Part Number 1: N/A; Halogen-free: TRUE; Packing: Tube; Mounting Technology: Through Hole; ComponentLink1Description: Manufacturer URL; ComponentLink1URL: http://www.infineon.com/; ComponentLink2Description: Datasheet; ComponentLink2URL: http://www.infineon.com/dgdl/DS_IPZ65R045C7_2_0.pdf?folderId=db3a30431ff98815012019af55de3f2c&fileId=db3a30433e5a5024013e6a50664963da; ComponentLink3Description: Package Specification; ComponentLink3URL: http://www.infineon.com/dgdl/DS_IPZ65R019C7_2_0.pdf?folderId=db3a30431ff98815012019af55de3f2c&fileId=db3a30433e5a5024013e78cb788341cb
footprint INF-PG-TO247-4 (FM, 4-Leads, Body 16.15x5.25mm, Pitch 2.54mm)
pins: 1 D, 2 S, 3 S, 4 G
text: 2, 3

## IPZ65R065C7
designator Q?
N-Channel CoolMOS(TM) C7 Power Transistor, 650 V VDS, -55 to 150 degC, PG-TO247-4, Tube, Green; Manufacturer: Infineon; PartNumber: IPZ65R065C7; Green: TRUE; Polarity: FALSE; RDS (on) (max): 65 mOhm; VDS (max): 650 V; DatasheetVersion: Rev. 2.1; PackageVersion: Rev. 1, 01/2013; PackageReference: PG-TO247-4; PackageDescription: 4-Pin Plastic (Green) Transistor Single Outline Package, 15.915 x 5.02 mm Body, 2.54 mm Pitch; Supplier 1: Mouser; Supplier Part Number 1: N/A; Halogen-free: TRUE; Packing: Tube; Mounting Technology: Through Hole; ComponentLink1Description: Manufacturer URL; ComponentLink1URL: http://www.infineon.com/; ComponentLink2Description: Datasheet; ComponentLink2URL: http://www.infineon.com/dgdl/DS_IPZ65R065C7_2_1.pdf?folderId=db3a3043156fd5730115c736bcc70ff2&fileId=db3a304341e0aed001420440a1011443; ComponentLink3Description: Package Specification; ComponentLink3URL: http://www.infineon.com/dgdl/DS_IPZ65R019C7_2_0.pdf?folderId=db3a30431ff98815012019af55de3f2c&fileId=db3a30433e5a5024013e78cb788341cb
footprint INF-PG-TO247-4 (FM, 4-Leads, Body 16.15x5.25mm, Pitch 2.54mm)
pins: 1 D, 2 S, 3 S, 4 G
text: 2, 3

## IPZ65R095C7
designator Q?
N-Channel CoolMOS(TM) C7 Power Transistor, 650 V VDS, -55 to 150 degC, PG-TO247-4, Tube, Green; Manufacturer: Infineon; PartNumber: IPZ65R095C7; Green: TRUE; Polarity: FALSE; RDS (on) (max): 95 mOhm; VDS (max): 650 V; DatasheetVersion: Rev. 2.0; PackageVersion: Rev. 1, 01/2013; PackageReference: PG-TO247-4; PackageDescription: 4-Pin Plastic (Green) Transistor Single Outline Package, 15.915 x 5.02 mm Body, 2.54 mm Pitch; Supplier 1: Mouser; Supplier Part Number 1: N/A; Halogen-free: TRUE; Packing: Tube; Mounting Technology: Through Hole; ComponentLink1Description: Manufacturer URL; ComponentLink1URL: http://www.infineon.com/; ComponentLink2Description: Datasheet; ComponentLink2URL: http://www.infineon.com/dgdl/DS_IPZ65R095C7_2_0.pdf?folderId=db3a3043156fd5730115c736bcc70ff2&fileId=db3a304341e0aed001420459d16f1601; ComponentLink3Description: Package Specification; ComponentLink3URL: http://www.infineon.com/dgdl/DS_IPZ65R019C7_2_0.pdf?folderId=db3a30431ff98815012019af55de3f2c&fileId=db3a30433e5a5024013e78cb788341cb
footprint INF-PG-TO247-4 (FM, 4-Leads, Body 16.15x5.25mm, Pitch 2.54mm)
pins: 1 D, 2 S, 3 S, 4 G
text: 2, 3

## SN7002N
designator Q?
N-Channel SIPMOS Small-Signal-Transistor, 60 V VDS, 0.2 A ID, -55 to 150 degC, PG-SOT23, Reel, Green; Manufacturer: Infineon; PartNumber: SN7002N; Green: TRUE; ID (max): 0.2 A; IDpuls (max): 0.8 A; Ptot (max): 0.36 W; QG: 1 nC; RDS (on) (max): 5,000 mOhm; RDS (on) (max) (@4.5V): 7,500 mOhm; RthJA (max): 350 K/W; VDS (max): 60 V; VGS(th) (max): 1.8 V; VGS(th) (min): 0.8 V; DatasheetVersion: Rev. 2.6; PackageVersion: Apr-08; PackageReference: PG-SOT23; PackageDescription: 3-Pin Small Outline Transistor Package, 2.9 x 1.3 mm Body, 0.95 mm Pitch; Halogen-free: TRUE; Packing: Reel; Mounting Technology: Surface Mount; ComponentLink1Description: Manufacturer URL; ComponentLink1URL: http://www.infineon.com/; ComponentLink2Description: Datasheet; ComponentLink2URL: http://www.infineon.com/dgdl/SN7002N_Rev2.6_.pdf?folderId=db3a3043156fd573011622e10b5c1f67&fileId=db3a304330f6860601311934e76045d5; ComponentLink3Description: Package Specification; ComponentLink3URL: http://www.infineon.com/dgdl/SOT23-Package_Overview.pdf?folderId=db3a30431936bc4b0119532290053c66&fileId=db3a30431936bc4b0119533468123c85
footprint INF-PG-SOT23_N (SOT23, 3-Leads, Body 2.9x1.3mm, Pitch 0.95mm, IPC Medium Density)
footprint INF-PG-SOT23_L (SOT23, 3-Leads, Body 2.9x1.3mm, Pitch 0.95mm, IPC High Density)
footprint INF-PG-SOT23_M (SOT23, 3-Leads, Body 2.9x1.3mm, Pitch 0.95mm, IPC Low Density)
pins: 1 GATE, 2 SOURCE, 3 DRAIN

## SN7002W
designator Q?
N-Channel SIPMOS Small-Signal-Transistor, 60 V VDS, 0.23 A ID, -55 to 150 degC, PG-SOT-323, Reel, Green; Manufacturer: Infineon; PartNumber: SN7002W; Green: TRUE; ID (max): 0.23 A; IDpuls (max): 0.92 A; Ptot (max): 0.5 W; QG: 1 nC; RDS (on) (max): 5,000 mOhm; RDS (on) (max) (@4.5V): 7,500 mOhm; VDS (max): 60 V; VGS(th) (max): 1.8 V; VGS(th) (min): 0.8 V; DatasheetVersion: Rev. 2.5; PackageVersion: Apr-08; PackageReference: PG-SOT-323; PackageDescription: 3-Pin Small Outline Transistor Package, 2 x 1.25 mm Body, 0.65 mm Pitch; Halogen-free: TRUE; Packing: Reel; Mounting Technology: Surface Mount; ComponentLink1Description: Manufacturer URL; ComponentLink1URL: http://www.infineon.com/; ComponentLink2Description: Datasheet; ComponentLink2URL: http://www.infineon.com/dgdl/SN7002W_Rev2.5_pdf%5B1%5D.pdf?folderId=db3a3043156fd573011622e10b5c1f67&fileId=db3a3043344adb9d0134569a59ab6195; ComponentLink3Description: Package Specification; ComponentLink3URL: http://www.infineon.com/dgdl/SOT323-Package_Overview.pdf?folderId=db3a30431936bc4b0119533e1dcb3c92&fileId=db3a30431936bc4b011953495f283cb1
footprint INF-PG-SOT-323_N (SOT3, 3-Leads, Body 2x1.25mm, Pitch 0.65mm, IPC Medium Density)
footprint INF-PG-SOT-323_L (SOT3, 3-Leads, Body 2x1.25mm, Pitch 0.65mm, IPC High Density)
footprint INF-PG-SOT-323_M (SOT3, 3-Leads, Body 2x1.25mm, Pitch 0.65mm, IPC Low Density)
pins: 1 GATE, 2 SOURCE, 3 DRAIN

## SPA02N80C3
designator Q?
N-Channel CoolMOS Power-Transistor, 800 V VDS, 2 A ID, -55 to 150 degC, PG-TO220-3-31, Tube, Green; Manufacturer: Infineon; PartNumber: SPA02N80C3; Green: TRUE; ID (max): 2 A; IDpuls (max): 6 A; Polarity: N; Ptot (max): 30.5 W; QG: 12 nC; RDS (on) (max): 2,700 mOhm; Rth: 4.1 K/W; RthJA (max): 80 K/W; VDS (max): 800 V; VGS(th) (max): 3.9 V; VGS(th) (min): 2.1 V; DatasheetVersion: Rev. 2.91; PackageVersion: Jan-07; PackageReference: PG-TO220-3-31; PackageDescription: 3-Pin Plastic (Green) Transistor Single Outline Package, 10.5 x 9.68 mm Body, 2.54 mm Pitch; Supplier 1: Mouser; Supplier Part Number 1: 726-SPA02N80C3; Supplier 2: Digi-Key; Supplier Part Number 2: SPA02N80C3IN-ND; Halogen-free: TRUE; Packing: Tube; RthJC (max): 4.1 K/W; Technology: CoolMOS C3; Mounting Technology: Through Hole; ComponentLink1Description: Manufacturer URL; ComponentLink1URL: http://www.infineon.com/; ComponentLink2Description: Datasheet; ComponentLink2URL: http://www.infineon.com/dgdl/SPA02N80C3_rev2.91_a.pdf?folderId=db3a3043163797a6011638491238009b&fileId=db3a3043163797a60116384eee2600b4; ComponentLink3Description: Package Specification; ComponentLink3URL: http://www.infineon.com/dgdl/IPA093N06N3_Rev2+0.pdf?folderId=db3a30431441fb5d01148ca9f1be0e77&fileId=db3a3043284aacd8012882bf84115438
footprint INF-PG-TO220-3-31 (FM, 3-Leads, Body 10.5x4.7mm, Pitch 2.54mm)
pins: 1 GATE, 2 DRAIN, 3 SOURCE

## SPA03N60C3
designator Q?
N-Channel CoolMOS Power-Transistor, 600 V VDS, 3.2 A ID, -55 to 150 degC, PG-TO220-3-31, Tube, Green; Manufacturer: Infineon; PartNumber: SPA03N60C3; Green: TRUE; ID (max): 3.2 A; IDpuls (max): 9.6 A; Polarity: N; Ptot (max): 29.7 W; QG: 13 nC; RDS (on) (max): 1,400 mOhm; Rth: 4.1 K/W; RthJA (max): 80 K/W; VDS (max): 600 V; VGS(th) (max): 3.9 V; VGS(th) (min): 2.1 V; DatasheetVersion: Rev. 3.0; PackageVersion: Jan-07; PackageReference: PG-TO220-3-31; PackageDescription: 3-Pin Plastic (Green) Transistor Single Outline Package, 10.5 x 9.68 mm Body, 2.54 mm Pitch; Supplier 1: Mouser; Supplier Part Number 1: 726-SPA03N60C3; Supplier 2: Farnell; Supplier Part Number 2: 1471760; Supplier 3: Digi-Key; Supplier Part Number 3: SPA03N60C3IN-ND; Halogen-free: TRUE; Packing: Tube; RthJC (max): 4.1 K/W; Technology: CoolMOS C3; Mounting Technology: Through Hole; ComponentLink1Description: Manufacturer URL; ComponentLink1URL: http://www.infineon.com/; ComponentLink2Description: Datasheet; ComponentLink2URL: http://www.infineon.com/dgdl/SPP_A03N60C3_Rev.3.0.pdf?folderId=db3a3043163797a6011637d4bae7003b&fileId=db3a304318f3fe29011908f075042a10; ComponentLink3Description: Package Specification; ComponentLink3URL: http://www.infineon.com/dgdl/IPA093N06N3_Rev2+0.pdf?folderId=db3a30431441fb5d01148ca9f1be0e77&fileId=db3a3043284aacd8012882bf84115438
footprint INF-PG-TO220-3-31 (FM, 3-Leads, Body 10.5x4.7mm, Pitch 2.54mm)
pins: 1 GATE, 2 DRAIN, 3 SOURCE

## SPA04N50C3
designator Q?
N-Channel CoolMOS Power-Transistor, 500 V VDS, 4.5 A ID, -55 to 150 degC, PG-TO220-3-31, Tube, Green; Manufacturer: Infineon; PartNumber: SPA04N50C3; Green: TRUE; ID (max): 4.5 A; IDpuls (max): 13.5 A; Polarity: N; Ptot (max): 31 W; QG: 22 nC; RDS (on) (max): 950 mOhm; Rth: 4 K/W; RthJA (max): 80 K/W; VDS (max): 500 V; VGS(th) (max): 3.9 V; VGS(th) (min): 2.1 V; DatasheetVersion: Rev. 2.9; PackageVersion: Jan-07; PackageReference: PG-TO220-3-31; PackageDescription: 3-Pin Plastic (Green) Transistor Single Outline Package, 10.5 x 9.68 mm Body, 2.54 mm Pitch; Supplier 1: Mouser; Supplier Part Number 1: 726-SPA04N50C3; Supplier 2: Digi-Key; Supplier Part Number 2: SPA04N50C3IN-ND; Packing: Tube; RthJC (max): 4 K/W; Technology: CoolMOS C3; Mounting Technology: Through Hole; ComponentLink1Description: Manufacturer URL; ComponentLink1URL: http://www.infineon.com/; ComponentLink2Description: Datasheet; ComponentLink2URL: http://www.infineon.com/dgdl/SPP_A04N50C3_Rev.2.9.pdf?folderId=db3a304412b407950112b408e8c90004&fileId=db3a304412b407950112b42cfc9247e4; ComponentLink3Description: Package Specification; ComponentLink3URL: http://www.infineon.com/dgdl/IPA093N06N3_Rev2+0.pdf?folderId=db3a30431441fb5d01148ca9f1be0e77&fileId=db3a3043284aacd8012882bf84115438
footprint INF-PG-TO220-3-31 (FM, 3-Leads, Body 10.5x4.7mm, Pitch 2.54mm)
pins: 1 GATE, 2 DRAIN, 3 SOURCE

## SPA04N60C3
designator Q?
N-Channel CoolMOS Power-Transistor, 600 V VDS, 4.5 A ID, -55 to 150 degC, PG-TO220-3-31, Tube, Green; Manufacturer: Infineon; PartNumber: SPA04N60C3; Green: TRUE; ID (max): 4.5 A; IDpuls (max): 13.5 A; Polarity: N; Ptot (max): 31 W; QG: 19 nC; RDS (on) (max): 950 mOhm; Rth: 4 K/W; RthJA (max): 80 K/W; VDS (max): 600 V; VGS(th) (max): 3.9 V; VGS(th) (min): 2.1 V; DatasheetVersion: Rev. 3.1; PackageVersion: Jan-07; PackageReference: PG-TO220-3-31; PackageDescription: 3-Pin Plastic (Green) Transistor Single Outline Package, 10.5 x 9.68 mm Body, 2.54 mm Pitch; Supplier 1: Mouser; Supplier Part Number 1: 726-SPA04N60C3; Supplier 2: Farnell; Supplier Part Number 2: 1471762; Supplier 3: Digi-Key; Supplier Part Number 3: SPA04N60C3IN-ND; Packing: Tube; RthJC (max): 4 K/W; Technology: CoolMOS C3; Mounting Technology: Through Hole; ComponentLink1Description: Manufacturer URL; ComponentLink1URL: http://www.infineon.com/; ComponentLink2Description: Datasheet; ComponentLink2URL: http://www.infineon.com/dgdl/SPP_A04N60C3_Rev.3.1.pdf?folderId=db3a304412b407950112b408e8c90004&fileId=db3a304412b407950112b42dd6a14900; ComponentLink3Description: Package Specification; ComponentLink3URL: http://www.infineon.com/dgdl/IPA093N06N3_Rev2+0.pdf?folderId=db3a30431441fb5d01148ca9f1be0e77&fileId=db3a3043284aacd8012882bf84115438
footprint INF-PG-TO220-3-31 (FM, 3-Leads, Body 10.5x4.7mm, Pitch 2.54mm)
pins: 1 GATE, 2 DRAIN, 3 SOURCE

## SPA04N80C3
designator Q?
N-Channel CoolMOS Power-Transistor, 800 V VDS, 4 A ID, -55 to 150 degC, PG-TO220-3-31, Tube, Green; Manufacturer: Infineon; PartNumber: SPA04N80C3; Green: TRUE; ID (max): 4 A; IDpuls (max): 12 A; Polarity: N; Ptot (max): 38 W; QG: 23 nC; RDS (on) (max): 1,300 mOhm; Rth: 4 K/W; RthJA (max): 80 K/W; VDS (max): 800 V; VGS(th) (max): 3.9 V; VGS(th) (min): 2.1 V; DatasheetVersion: Rev. 2.91; PackageVersion: Jan-07; PackageReference: PG-TO220-3-31; PackageDescription: 3-Pin Plastic (Green) Transistor Single Outline Package, 10.5 x 9.68 mm Body, 2.54 mm Pitch; Supplier 1: Mouser; Supplier Part Number 1: 726-SPA04N80C3; Supplier 2: Newark; Supplier Part Number 2: 62M0111; Supplier 3: Farnell; Supplier Part Number 3: 1471763; Supplier 4: Digi-Key; Supplier Part Number 4: SPA04N80C3IN-ND; Halogen-free: TRUE; Packing: Tube; RthJC (max): 4 K/W; Technology: CoolMOS C3; Mounting Technology: Through Hole; ComponentLink1Description: Manufacturer URL; ComponentLink1URL: http://www.infineon.com/; ComponentLink2Description: Datasheet; ComponentLink2URL: http://www.infineon.com/dgdl/SPA04N80C3_rev2.91_a.pdf?folderId=db3a3043163797a6011638491238009b&fileId=db3a3043163797a601163851748000c0; ComponentLink3Description: Package Specification; ComponentLink3URL: http://www.infineon.com/dgdl/IPA093N06N3_Rev2+0.pdf?folderId=db3a30431441fb5d01148ca9f1be0e77&fileId=db3a3043284aacd8012882bf84115438
footprint INF-PG-TO220-3-31 (FM, 3-Leads, Body 10.5x4.7mm, Pitch 2.54mm)
pins: 1 GATE, 2 DRAIN, 3 SOURCE

## SPA06N60C3
designator Q?
N-Channel CoolMOS Power-Transistor, 600 V VDS, 6.2 A ID, -55 to 150 degC, PG-TO220-3-31, Tube, Green; Manufacturer: Infineon; PartNumber: SPA06N60C3; Green: TRUE; ID (max): 6.2 A; IDpuls (max): 18.6 A; Polarity: N; Ptot (max): 32 W; QG: 24 nC; RDS (on) (max): 750 mOhm; Rth: 3.92 K/W; RthJA (max): 80 K/W; VDS (max): 600 V; VGS(th) (max): 3.9 V; VGS(th) (min): 2.1 V; DatasheetVersion: Rev. 1.3; PackageVersion: Jan-07; PackageReference: PG-TO220-3-31; PackageDescription: 3-Pin Plastic (Green) Transistor Single Outline Package, 10.5 x 9.68 mm Body, 2.54 mm Pitch; Supplier 1: Mouser; Supplier Part Number 1: 726-SPA06N60C3; Supplier 2: Newark; Supplier Part Number 2: 62M0112; Supplier 3: Farnell; Supplier Part Number 3: 1471765; Supplier 4: Digi-Key; Supplier Part Number 4: SPA06N60C3IN-ND; Halogen-free: TRUE; Packing: Tube; RthJC (max): 3.92 K/W; Technology: CoolMOS C3; Mounting Technology: Through Hole; ComponentLink1Description: Manufacturer URL; ComponentLink1URL: http://www.infineon.com/; ComponentLink2Description: Datasheet; ComponentLink2URL: http://www.infineon.com/dgdl/SPA06N60C3_rev1.3.pdf?folderId=db3a3043163797a6011638933eda014b&fileId=db3a3043163797a60116389c830e0180; ComponentLink3Description: Package Specification; ComponentLink3URL: http://www.infineon.com/dgdl/IPA093N06N3_Rev2+0.pdf?folderId=db3a30431441fb5d01148ca9f1be0e77&fileId=db3a3043284aacd8012882bf84115438
footprint INF-PG-TO220-3-31 (FM, 3-Leads, Body 10.5x4.7mm, Pitch 2.54mm)
pins: 1 GATE, 2 DRAIN, 3 SOURCE

## SPA06N80C3
designator Q?
N-Channel CoolMOS Power-Transistor, 800 V VDS, 6 A ID, -55 to 150 degC, PG-TO220-3-31, Tube, Green; Manufacturer: Infineon; PartNumber: SPA06N80C3; Green: TRUE; ID (max): 6 A; IDpuls (max): 18 A; Polarity: N; Ptot (max): 39 W; QG: 31 nC; RDS (on) (max): 900 mOhm; Rth: 3.9 K/W; RthJA (max): 80 K/W; VDS (max): 800 V; VGS(th) (max): 3.9 V; VGS(th) (min): 2.1 V; DatasheetVersion: Rev. 2.91; PackageVersion: Jan-07; PackageReference: PG-TO220-3-31; PackageDescription: 3-Pin Plastic (Green) Transistor Single Outline Package, 10.5 x 9.68 mm Body, 2.54 mm Pitch; Supplier 1: Mouser; Supplier Part Number 1: 726-SPA06N80C3; Supplier 2: Newark; Supplier Part Number 2: 62M0113; Supplier 3: Farnell; Supplier Part Number 3: 1471766; Supplier 4: Digi-Key; Supplier Part Number 4: SPA06N80C3IN-ND; Halogen-free: TRUE; Packing: Tube; RthJC (max): 3.9 K/W; Technology: CoolMOS C3; Mounting Technology: Through Hole; ComponentLink1Description: Manufacturer URL; ComponentLink1URL: http://www.infineon.com/; ComponentLink2Description: Datasheet; ComponentLink2URL: http://www.infineon.com/dgdl/SPA06N80C3_rev2.91_a.pdf?folderId=db3a3043163797a6011638491238009b&fileId=db3a3043163797a601163854727600cf; ComponentLink3Description: Package Specification; ComponentLink3URL: http://www.infineon.com/dgdl/IPA093N06N3_Rev2+0.pdf?folderId=db3a30431441fb5d01148ca9f1be0e77&fileId=db3a3043284aacd8012882bf84115438
footprint INF-PG-TO220-3-31 (FM, 3-Leads, Body 10.5x4.7mm, Pitch 2.54mm)
pins: 1 GATE, 2 DRAIN, 3 SOURCE

## SPA07N60C3
designator Q?
N-Channel CoolMOS Power-Transistor, 600 V VDS, 7.3 A ID, -55 to 150 degC, PG-TO220-3-31, Tube, Green; Manufacturer: Infineon; PartNumber: SPA07N60C3; Green: TRUE; ID (max): 7.3 A; IDpuls (max): 21.9 A; Polarity: N; Ptot (max): 32 W; QG: 21 nC; RDS (on) (max): 600 mOhm; Rth: 3.9 K/W; RthJA (max): 80 K/W; VDS (max): 600 V; VGS(th) (max): 3.9 V; VGS(th) (min): 2.1 V; DatasheetVersion: Rev. 3.2; PackageVersion: Jan-07; PackageReference: PG-TO220-3-31; PackageDescription: 3-Pin Plastic (Green) Transistor Single Outline Package, 10.5 x 9.68 mm Body, 2.54 mm Pitch; Supplier 1: Mouser; Supplier Part Number 1: 726-SPA07N60C3; Supplier 2: Newark; Supplier Part Number 2: 62M0114; Supplier 3: Farnell; Supplier Part Number 3: 1471767; Supplier 4: Digi-Key; Supplier Part Number 4: SPA07N60C3IN-ND; Halogen-free: TRUE; Packing: Tube; RthJC (max): 3.9 K/W; Technology: CoolMOS C3; Mounting Technology: Through Hole; ComponentLink1Description: Manufacturer URL; ComponentLink1URL: http://www.infineon.com/; ComponentLink2Description: Datasheet; ComponentLink2URL: http://www.infineon.com/dgdl/SPP_A_I07N60C3_Rev.3.2.pdf?folderId=db3a3043163797a6011638933eda014b&fileId=db3a3043163797a60116389eac87018f; ComponentLink3Description: Package Specification; ComponentLink3URL: http://www.infineon.com/dgdl/IPA093N06N3_Rev2+0.pdf?folderId=db3a30431441fb5d01148ca9f1be0e77&fileId=db3a3043284aacd8012882bf84115438
footprint INF-PG-TO220-3-31 (FM, 3-Leads, Body 10.5x4.7mm, Pitch 2.54mm)
pins: 1 GATE, 2 DRAIN, 3 SOURCE